# Altium integrated library Linear Technology Power Management PMIC Multifunction.IntLib: 360 symbols (part 11 of 42)
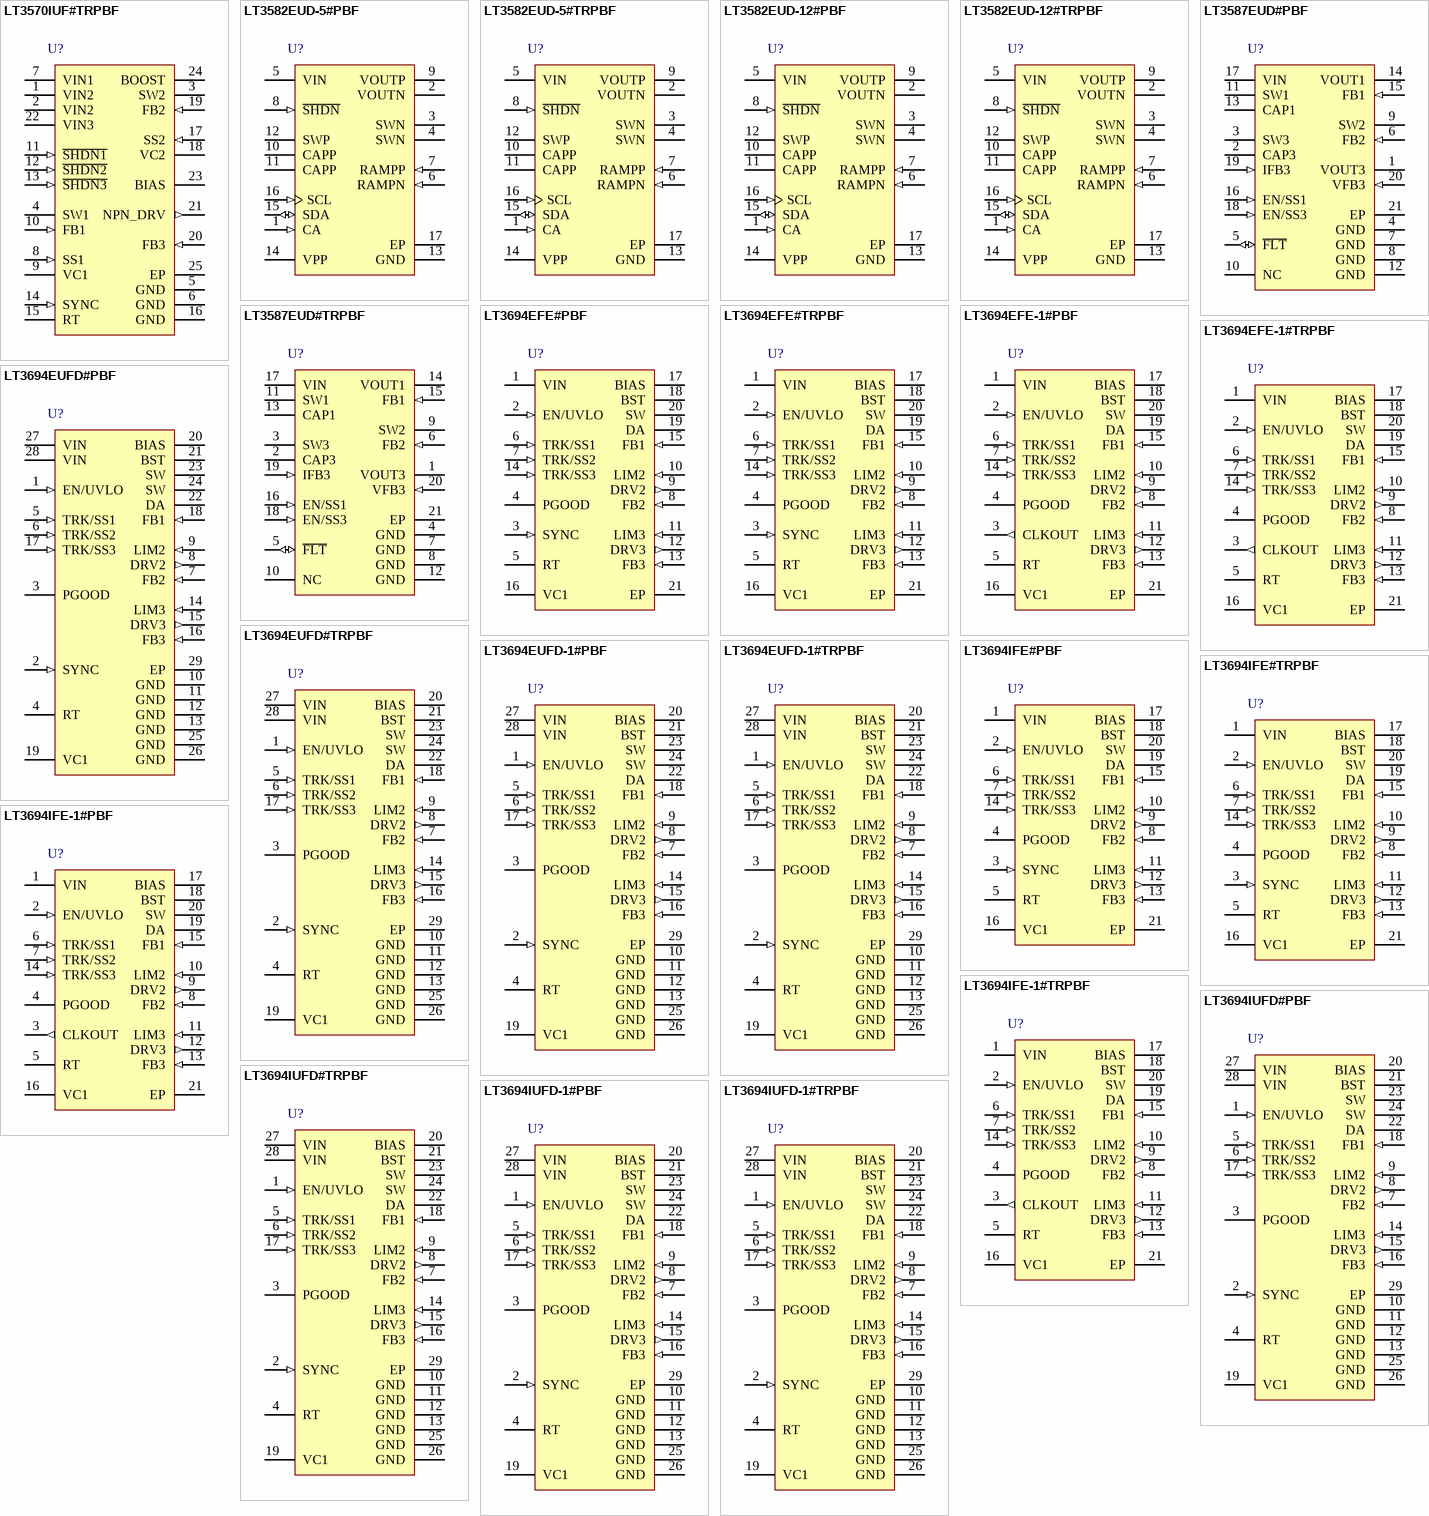
[diagram p28: symbols LT3570IUF#TRPBF to LT3694IUFD-1#TRPBF]

## LT3694IUFD-1#PBF
designator U?
2.6 A Monolithic Buck Regulator with Dual LDO, 4 to 36 V Vin, 28-pin QFN (UFD-28), -40 to 125 degC, Pb-Free; Manufacturer: Linear Technology; PartNumber: LT3694IUFD-1#PBF; Number of Outputs: 3; Vin Max(V): 36; Vin Min(V): 4; DatasheetVersion: Rev. B; PackageVersion: Rev. B, 06/2010; PackageReference: UFD-28; PackageDescription: 28-Pin Plastic QFN, Body 5 x 4 mm, Pitch 0.5 mm; Supplier 1: Digi-Key; Supplier Part Number 1: LT3694IUFD-1#PBF-ND; RoHS: TRUE; Mounting Technology: Surface Mount; Code_JEDEC: MO-220; ComponentLink1Description: Manufacturer URL; ComponentLink1URL: http://www.linear.com/; ComponentLink2Description: Datasheet; ComponentLink2URL: http://cds.linear.com/docs/en/datasheet/36941fb.pdf; ComponentLink3Description: Package Specification; ComponentLink3URL: http://cds.linear.com/docs/en/packaging/QFN_28_05-08-1712.pdf
footprint LT-UFD-28_N (QFN, 28-Leads, Body 5.1x4.1mm, Pitch 0.5mm, Thermal Pad 3.65x2.65mm, IPC Medium Density)
footprint LT-UFD-28_L (QFN, 28-Leads, Body 5.1x4.1mm, Pitch 0.5mm, Thermal Pad 3.65x2.65mm, IPC High Density)
footprint LT-UFD-28_M (QFN, 28-Leads, Body 5.1x4.1mm, Pitch 0.5mm, Thermal Pad 3.65x2.65mm, IPC Low Density)
pins: 1 EN/UVLO (in) "The EN/UVLO pin is used to shut down the LT3694. It can be driven from a logic level or used as an undervoltage lockout by connecting a resistor divider from VIN.", 2 SYNC (in) "Frequency Synchronization Input. Connect a frequency source to this input if synchronization is desired. Connect SYNC to ground if not used", 3 PGOOD (oc) "Open Collector Output. PGOOD is pulled low when any of the three regulators drops out of regulation (VFB < 90% of nominal value).", 4 RT "The RT pin requires a resistor to ground to set the operating frequency of the LT3694. If synchronizing the LT3694 to an external clock, the resistor should be set to program the frequency at least 20% below the (See Datasheet)", 5 TRK/SS1 (in) "The TRK/SS pins allow a regulator to track the output of another regulator. When the TRK/SS pin is below 0.75V, the FB pin regulates to the TRK/SS voltage. This pin can also be used as a soft-start by connecting a capacitor (See Datasheet)", 6 TRK/SS2 (in) "The TRK/SS pins allow a regulator to track the output of another regulator. When the TRK/SS pin is below 0.75V, the FB pin regulates to the TRK/SS voltage. This pin can also be used as a soft-start by connecting a capacitor (See Datasheet)", 7 FB2 (in) "Negative Inputs of the Error Amplifiers. The LT3694 regulates each feedback pin to the lesser of 0.75V or the corresponding TRK/SS pin voltage. Connect the feedback resistor divider taps to these pins.", 8 DRV2 (out) "The DRV pins provide the base drive for the external NPN transistorfor the LDO regulators. The DRV pins can provide up to 6V of base drive.", 9 LIM2 (in) "The LIM pins provide current limiting on the LDO pass transistors by sensing a voltage on an external sense resistor connected to the BIAS pin. These pins should be connected to BIAS if this function is not used.", 10 GND (power) "Power and Signal Ground.", 11 GND (power) "Power and Signal Ground.", 12 GND (power) "Power and Signal Ground.", 13 GND (power) "Power and Signal Ground.", 14 LIM3 (in) "The LIM pins provide current limiting on the LDO pass transistors by sensing a voltage on an external sense resistor connected to the BIAS pin. These pins should be connected to BIAS if this function is not used.", 15 DRV3 (out) "The DRV pins provide the base drive for the external NPN transistorfor the LDO regulators. The DRV pins can provide up to 6V of base drive.", 16 FB3 (in) "Negative Inputs of the Error Amplifiers. The LT3694 regulates each feedback pin to the lesser of 0.75V or the corresponding TRK/SS pin voltage. Connect the feedback resistor divider taps to these pins.", 17 TRK/SS3 (in) "The TRK/SS pins allow a regulator to track the output of another regulator. When the TRK/SS pin is below 0.75V, the FB pin regulates to the TRK/SS voltage. This pin can also be used as a soft-start by connecting a capacitor (See Datasheet)", 18 FB1 (in) "Negative Inputs of the Error Amplifiers. The LT3694 regulates each feedback pin to the lesser of 0.75V or the corresponding TRK/SS pin voltage. Connect the feedback resistor divider taps to these pins.", 19 VC1 "Output of the Internal Error Amp. The voltage on this pin controls the peak switch current. This pin is normally used to compensate the control loop. The switching regulator can be shut down by pulling the VC1 pin to ground (See Datasheet)", 20 BIAS (power) "The BIAS pin supplies the current to the LT3694’s internal regulator and boost circuits. This must be connected to a voltage source above 3V, usually to VOUT1. The LDO pass transistor base current will also come from th(See Datasheet)", 21 BST "The BST pin is used to provide a drive voltage, higher than the input voltage, to the internal bipolar NPN power switch.", 22 DA "The DA pin senses the catch diode current to prevent excessive inductor current in output overload or short-circuit conditions.", 23 SW (power) "Output of the Internal Power Switch. Connect this pin to the inductor and switching diode.", 24 SW (power) "Output of the Internal Power Switch. Connect this pin to the inductor and switching diode.", 25 GND (power) "Power and Signal Ground.", 26 GND (power) "Power and Signal Ground.", 27 VIN (power) "The VIN pin supplies power to the internal switch of the 2.6A regulator and to the LT3694’s internal reference and start-up circuitry. This pin must be locally bypassed.", 28 VIN (power) "The VIN pin supplies power to the internal switch of the 2.6A regulator and to the LT3694’s internal reference and start-up circuitry. This pin must be locally bypassed.", 29 EP (power) "Ground. The underside exposed pad metal of the package provides both electrical contact to ground and a conductive thermal path to the printed circuit board. The Exposed Pad must be soldered to a grounded pad on the circuit (See Datasheet)"

## LT3694IUFD-1#TRPBF
designator U?
2.6 A Monolithic Buck Regulator with Dual LDO, 4 to 36 V Vin, 28-pin QFN (UFD-28), -40 to 125 degC, Pb-Free, Tape and Reel; Manufacturer: Linear Technology; PartNumber: LT3694IUFD-1#TRPBF; Number of Outputs: 3; Vin Max(V): 36; Vin Min(V): 4; DatasheetVersion: Rev. B; PackageVersion: Rev. B, 06/2010; PackageReference: UFD-28; PackageDescription: 28-Pin Plastic QFN, Body 5 x 4 mm, Pitch 0.5 mm; Supplier 1: Digi-Key; Supplier Part Number 1: LT3694IUFD-1#TRPBF-ND; Packing: Tape and Reel; RoHS: TRUE; Mounting Technology: Surface Mount; Code_JEDEC: MO-220; ComponentLink1Description: Manufacturer URL; ComponentLink1URL: http://www.linear.com/; ComponentLink2Description: Datasheet; ComponentLink2URL: http://cds.linear.com/docs/en/datasheet/36941fb.pdf; ComponentLink3Description: Package Specification; ComponentLink3URL: http://cds.linear.com/docs/en/packaging/QFN_28_05-08-1712.pdf
footprint LT-UFD-28_N (QFN, 28-Leads, Body 5.1x4.1mm, Pitch 0.5mm, Thermal Pad 3.65x2.65mm, IPC Medium Density)
footprint LT-UFD-28_L (QFN, 28-Leads, Body 5.1x4.1mm, Pitch 0.5mm, Thermal Pad 3.65x2.65mm, IPC High Density)
footprint LT-UFD-28_M (QFN, 28-Leads, Body 5.1x4.1mm, Pitch 0.5mm, Thermal Pad 3.65x2.65mm, IPC Low Density)
pins: 1 EN/UVLO (in) "The EN/UVLO pin is used to shut down the LT3694. It can be driven from a logic level or used as an undervoltage lockout by connecting a resistor divider from VIN.", 2 SYNC (in) "Frequency Synchronization Input. Connect a frequency source to this input if synchronization is desired. Connect SYNC to ground if not used", 3 PGOOD (oc) "Open Collector Output. PGOOD is pulled low when any of the three regulators drops out of regulation (VFB < 90% of nominal value).", 4 RT "The RT pin requires a resistor to ground to set the operating frequency of the LT3694. If synchronizing the LT3694 to an external clock, the resistor should be set to program the frequency at least 20% below the (See Datasheet)", 5 TRK/SS1 (in) "The TRK/SS pins allow a regulator to track the output of another regulator. When the TRK/SS pin is below 0.75V, the FB pin regulates to the TRK/SS voltage. This pin can also be used as a soft-start by connecting a capacitor (See Datasheet)", 6 TRK/SS2 (in) "The TRK/SS pins allow a regulator to track the output of another regulator. When the TRK/SS pin is below 0.75V, the FB pin regulates to the TRK/SS voltage. This pin can also be used as a soft-start by connecting a capacitor (See Datasheet)", 7 FB2 (in) "Negative Inputs of the Error Amplifiers. The LT3694 regulates each feedback pin to the lesser of 0.75V or the corresponding TRK/SS pin voltage. Connect the feedback resistor divider taps to these pins.", 8 DRV2 (out) "The DRV pins provide the base drive for the external NPN transistorfor the LDO regulators. The DRV pins can provide up to 6V of base drive.", 9 LIM2 (in) "The LIM pins provide current limiting on the LDO pass transistors by sensing a voltage on an external sense resistor connected to the BIAS pin. These pins should be connected to BIAS if this function is not used.", 10 GND (power) "Power and Signal Ground.", 11 GND (power) "Power and Signal Ground.", 12 GND (power) "Power and Signal Ground.", 13 GND (power) "Power and Signal Ground.", 14 LIM3 (in) "The LIM pins provide current limiting on the LDO pass transistors by sensing a voltage on an external sense resistor connected to the BIAS pin. These pins should be connected to BIAS if this function is not used.", 15 DRV3 (out) "The DRV pins provide the base drive for the external NPN transistorfor the LDO regulators. The DRV pins can provide up to 6V of base drive.", 16 FB3 (in) "Negative Inputs of the Error Amplifiers. The LT3694 regulates each feedback pin to the lesser of 0.75V or the corresponding TRK/SS pin voltage. Connect the feedback resistor divider taps to these pins.", 17 TRK/SS3 (in) "The TRK/SS pins allow a regulator to track the output of another regulator. When the TRK/SS pin is below 0.75V, the FB pin regulates to the TRK/SS voltage. This pin can also be used as a soft-start by connecting a capacitor (See Datasheet)", 18 FB1 (in) "Negative Inputs of the Error Amplifiers. The LT3694 regulates each feedback pin to the lesser of 0.75V or the corresponding TRK/SS pin voltage. Connect the feedback resistor divider taps to these pins.", 19 VC1 "Output of the Internal Error Amp. The voltage on this pin controls the peak switch current. This pin is normally used to compensate the control loop. The switching regulator can be shut down by pulling the VC1 pin to ground (See Datasheet)", 20 BIAS (power) "The BIAS pin supplies the current to the LT3694’s internal regulator and boost circuits. This must be connected to a voltage source above 3V, usually to VOUT1. The LDO pass transistor base current will also come from th(See Datasheet)", 21 BST "The BST pin is used to provide a drive voltage, higher than the input voltage, to the internal bipolar NPN power switch.", 22 DA "The DA pin senses the catch diode current to prevent excessive inductor current in output overload or short-circuit conditions.", 23 SW (power) "Output of the Internal Power Switch. Connect this pin to the inductor and switching diode.", 24 SW (power) "Output of the Internal Power Switch. Connect this pin to the inductor and switching diode.", 25 GND (power) "Power and Signal Ground.", 26 GND (power) "Power and Signal Ground.", 27 VIN (power) "The VIN pin supplies power to the internal switch of the 2.6A regulator and to the LT3694’s internal reference and start-up circuitry. This pin must be locally bypassed.", 28 VIN (power) "The VIN pin supplies power to the internal switch of the 2.6A regulator and to the LT3694’s internal reference and start-up circuitry. This pin must be locally bypassed.", 29 EP (power) "Ground. The underside exposed pad metal of the package provides both electrical contact to ground and a conductive thermal path to the printed circuit board. The Exposed Pad must be soldered to a grounded pad on the circuit (See Datasheet)"

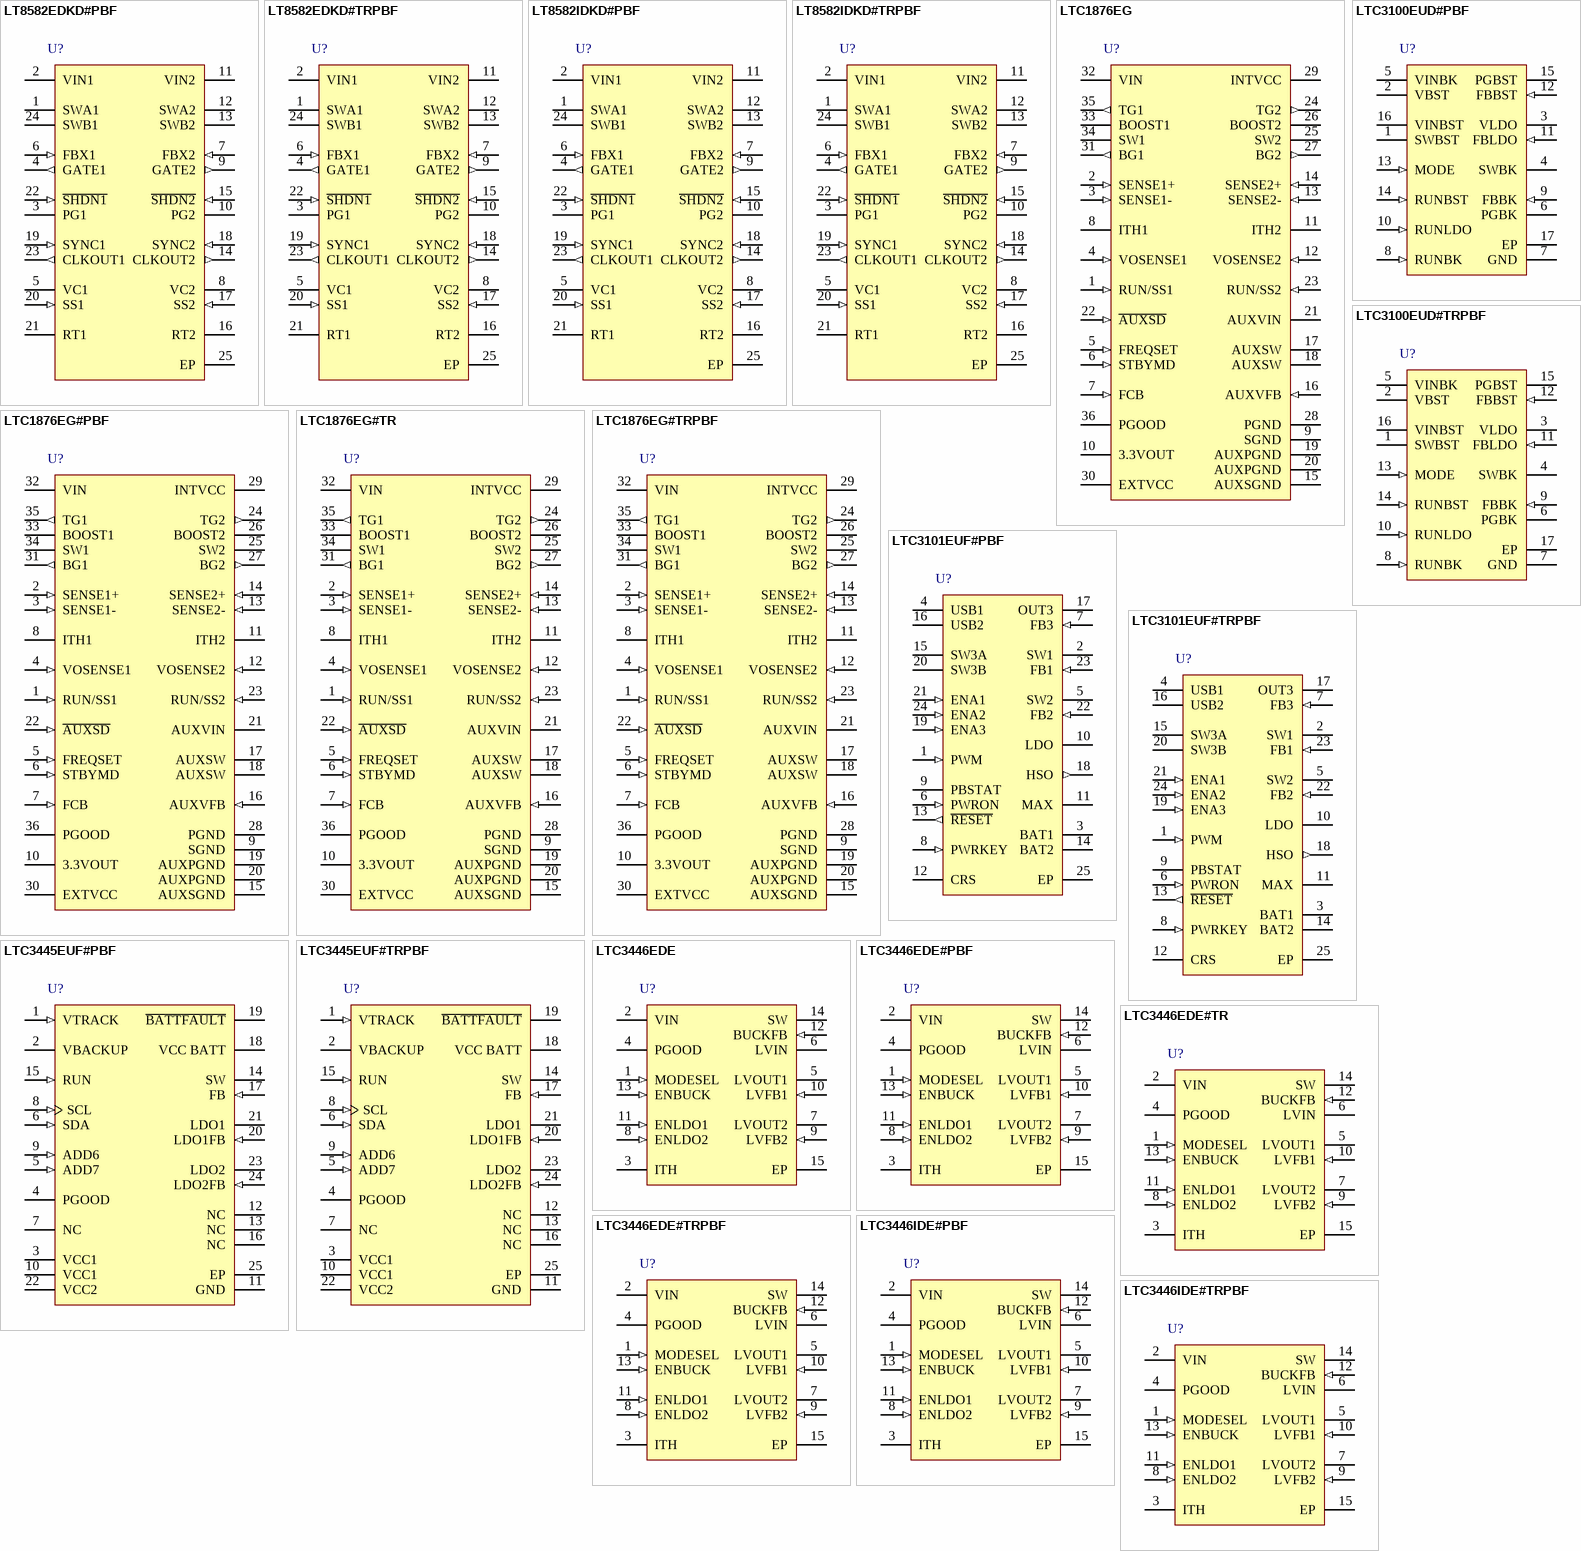
[diagram p5: symbols LT8582EDKD#PBF to LTC3446IDE#TRPBF]

## LT8582EDKD#PBF
designator U?
Dual 3 A Boost / Inverting / SEPIC DC/DC Converter with Fault Protection, 2.5 to 22 V Vin, 24-pin SON (DKD-24), -40 to 125 degC, Pb-Free; Manufacturer: Linear Technology; PartNumber: LT8582EDKD#PBF; Number of Outputs: 2; Vin Max(V): 22; Vin Min(V): 2.5; PackageVersion: Rev. Ø, 06/2010; PackageReference: DKD-24; PackageDescription: 24-Pin Plastic DFN, Body 7 x 4 mm, Pitch 0.5 mm; Supplier 1: Digi-Key; Supplier Part Number 1: LT8582EDKD#PBF-ND; Supplier 2: Farnell; Supplier Part Number 2: 2097872; Supplier 3: Newark; Supplier Part Number 3: 82T4676; RoHS: TRUE; Mounting Technology: Surface Mount; Code_JEDEC: MO-229; ComponentLink1Description: Manufacturer URL; ComponentLink1URL: http://www.linear.com/; ComponentLink2Description: Datasheet; ComponentLink2URL: http://cds.linear.com/docs/en/datasheet/8582f.pdf; ComponentLink3Description: Package Specification; ComponentLink3URL: http://cds.linear.com/docs/en/packaging/DFN_24_05-08-1864.pdf
footprint LT-DKD-24_V (SON, 24-Leads, Body 7x4mm, Pitch 0.5mm, Thermal Pad 2.64x6.43mm)
pins: 1 SWA1 (power) "Master Switch Pins. This is the collector of the internal master NPN power switch for each channel. SWA is designed to handle a peak collector current of 1.7A (minimum). Minimize the metal trace area connected to this pin to (See Datasheet)", 2 VIN1 (power) "Input Supply Pins. Must be locally bypassed.", 3 PG1 (oc) "Power Good Indication Pins. This active high pin indicates that the FBX pin voltage for the corresponding channel is within 4% of its regulation voltage (VFBX > 1.15V for noninverting outputs or VFBX < 65mV for inverting (See Datasheet)", 4 GATE1 (out) "PMOS Gate Drive Pins. The GATE pin is a pull-down current source and can be used to drive the gate of an external PMOS transistor for output short-circuit protection or output disconnect. The GATE pin current increases (See Datasheet)", 5 VC1 "Error Amplifier Output Pins. Tie external compensation network to these pins.", 6 FBX1 (in) "Positive and Negative Feedback Pins. For an inverting or noninverting output converter, tie a resistor from the FBX pin to VOUT according to the following equations", 7 FBX2 (in) "Positive and Negative Feedback Pins. For an inverting or noninverting output converter, tie a resistor from the FBX pin to VOUT according to the following equations", 8 VC2 "Error Amplifier Output Pins. Tie external compensation network to these pins.", 9 GATE2 (out) "PMOS Gate Drive Pins. The GATE pin is a pull-down current source and can be used to drive the gate of an external PMOS transistor for output short-circuit protection or output disconnect. The GATE pin current increases (See Datasheet)", 10 PG2 (oc) "Power Good Indication Pins. This active high pin indicates that the FBX pin voltage for the corresponding channel is within 4% of its regulation voltage (VFBX > 1.15V for noninverting outputs or VFBX < 65mV for inverting (See Datasheet)", 11 VIN2 (power) "Input Supply Pins. Must be locally bypassed.", 12 SWA2 (power) "Master Switch Pins. This is the collector of the internal master NPN power switch for each channel. SWA is designed to handle a peak collector current of 1.7A (minimum). Minimize the metal trace area connected to this pin to (See Datasheet)", 13 SWB2 (power) "Slave Switch Pins. This is the collector of the internal slave NPN power switch for each channel. SWB is designed to handle a peak collector current of 1.3A (minimum). Minimize the metal trace area connected to this pin to (See Datasheet)", 14 CLKOUT2 (out) "Clock Output Pins. Use these pins to synchronize one or more other ICs to either channel of the LT8582. Can also be used to synchronize channel 1 or channel 2 of the LT8582 with the other channel of the LT8582. This pin (See Datasheet)", 15 ~{SHDN2} (in) "Shutdown Pins. In conjunction with the UVLO (undervoltage lockout) circuit, these pins are used to enable/disable the channel and restart the soft-start sequence. Drive below 0.3V to disable the channel with very low (See Datasheet)", 16 RT2 "Timing Resistor Pins. Adjusts the switching frequency of the corresponding channel. Place a resistor from these pins to ground to set the frequency to a fixed free running level. Do not float these pins.", 17 SS2 (in) "Soft-Start Pins. Place a softstart capacitor here. Upon start-up, the SS pins will be charged by a (nominally) 250k resistor to ~2.1V. During a fault, the SS pin for the corresponding channel will be slowly charged up and (See Datasheet)", 18 SYNC2 (in) "Use to synchronize the switching frequency of a channel to an outside clock. The high voltage level of the clock must exceed 1.3V and the low level must be less than 0.4V. Drive these pins to less than 0.4V to revert to the (See Datasheet)", 19 SYNC1 (in) "Use to synchronize the switching frequency of a channel to an outside clock. The high voltage level of the clock must exceed 1.3V and the low level must be less than 0.4V. Drive these pins to less than 0.4V to revert to the (See Datasheet)", 20 SS1 (in) "Soft-Start Pins. Place a softstart capacitor here. Upon start-up, the SS pins will be charged by a (nominally) 250k resistor to ~2.1V. During a fault, the SS pin for the corresponding channel will be slowly charged up and (See Datasheet)", 21 RT1 "Timing Resistor Pins. Adjusts the switching frequency of the corresponding channel. Place a resistor from these pins to ground to set the frequency to a fixed free running level. Do not float these pins.", 22 ~{SHDN1} (in) "Shutdown Pins. In conjunction with the UVLO (undervoltage lockout) circuit, these pins are used to enable/disable the channel and restart the soft-start sequence. Drive below 0.3V to disable the channel with very low (See Datasheet)", 23 CLKOUT1 (out) "Clock Output Pins. Use these pins to synchronize one or more other ICs to either channel of the LT8582. Can also be used to synchronize channel 1 or channel 2 of the LT8582 with the other channel of the LT8582. This pin (See Datasheet)", 24 SWB1 (power) "Slave Switch Pins. This is the collector of the internal slave NPN power switch for each channel. SWB is designed to handle a peak collector current of 1.3A (minimum). Minimize the metal trace area connected to this pin to (See Datasheet)", 25 EP (power) "Ground. Exposed pad must be soldered directly to local ground plane."

## LT8582EDKD#TRPBF
designator U?
Dual 3 A Boost / Inverting / SEPIC DC/DC Converter with Fault Protection, 2.5 to 22 V Vin, 24-pin SON (DKD-24), -40 to 125 degC, Pb-Free, Tape and Reel; Manufacturer: Linear Technology; PartNumber: LT8582EDKD#TRPBF; Number of Outputs: 2; Vin Max(V): 22; Vin Min(V): 2.5; PackageVersion: Rev. Ø, 06/2010; PackageReference: DKD-24; PackageDescription: 24-Pin Plastic DFN, Body 7 x 4 mm, Pitch 0.5 mm; Supplier 1: Digi-Key; Supplier Part Number 1: LT8582EDKD#TRPBF-ND; Packing: Tape and Reel; RoHS: TRUE; Mounting Technology: Surface Mount; Code_JEDEC: MO-229; ComponentLink1Description: Manufacturer URL; ComponentLink1URL: http://www.linear.com/; ComponentLink2Description: Datasheet; ComponentLink2URL: http://cds.linear.com/docs/en/datasheet/8582f.pdf; ComponentLink3Description: Package Specification; ComponentLink3URL: http://cds.linear.com/docs/en/packaging/DFN_24_05-08-1864.pdf
footprint LT-DKD-24_V (SON, 24-Leads, Body 7x4mm, Pitch 0.5mm, Thermal Pad 2.64x6.43mm)
pins: 1 SWA1 (power) "Master Switch Pins. This is the collector of the internal master NPN power switch for each channel. SWA is designed to handle a peak collector current of 1.7A (minimum). Minimize the metal trace area connected to this pin to (See Datasheet)", 2 VIN1 (power) "Input Supply Pins. Must be locally bypassed.", 3 PG1 (oc) "Power Good Indication Pins. This active high pin indicates that the FBX pin voltage for the corresponding channel is within 4% of its regulation voltage (VFBX > 1.15V for noninverting outputs or VFBX < 65mV for inverting (See Datasheet)", 4 GATE1 (out) "PMOS Gate Drive Pins. The GATE pin is a pull-down current source and can be used to drive the gate of an external PMOS transistor for output short-circuit protection or output disconnect. The GATE pin current increases (See Datasheet)", 5 VC1 "Error Amplifier Output Pins. Tie external compensation network to these pins.", 6 FBX1 (in) "Positive and Negative Feedback Pins. For an inverting or noninverting output converter, tie a resistor from the FBX pin to VOUT according to the following equations", 7 FBX2 (in) "Positive and Negative Feedback Pins. For an inverting or noninverting output converter, tie a resistor from the FBX pin to VOUT according to the following equations", 8 VC2 "Error Amplifier Output Pins. Tie external compensation network to these pins.", 9 GATE2 (out) "PMOS Gate Drive Pins. The GATE pin is a pull-down current source and can be used to drive the gate of an external PMOS transistor for output short-circuit protection or output disconnect. The GATE pin current increases (See Datasheet)", 10 PG2 (oc) "Power Good Indication Pins. This active high pin indicates that the FBX pin voltage for the corresponding channel is within 4% of its regulation voltage (VFBX > 1.15V for noninverting outputs or VFBX < 65mV for inverting (See Datasheet)", 11 VIN2 (power) "Input Supply Pins. Must be locally bypassed.", 12 SWA2 (power) "Master Switch Pins. This is the collector of the internal master NPN power switch for each channel. SWA is designed to handle a peak collector current of 1.7A (minimum). Minimize the metal trace area connected to this pin to (See Datasheet)", 13 SWB2 (power) "Slave Switch Pins. This is the collector of the internal slave NPN power switch for each channel. SWB is designed to handle a peak collector current of 1.3A (minimum). Minimize the metal trace area connected to this pin to (See Datasheet)", 14 CLKOUT2 (out) "Clock Output Pins. Use these pins to synchronize one or more other ICs to either channel of the LT8582. Can also be used to synchronize channel 1 or channel 2 of the LT8582 with the other channel of the LT8582. This pin (See Datasheet)", 15 ~{SHDN2} (in) "Shutdown Pins. In conjunction with the UVLO (undervoltage lockout) circuit, these pins are used to enable/disable the channel and restart the soft-start sequence. Drive below 0.3V to disable the channel with very low (See Datasheet)", 16 RT2 "Timing Resistor Pins. Adjusts the switching frequency of the corresponding channel. Place a resistor from these pins to ground to set the frequency to a fixed free running level. Do not float these pins.", 17 SS2 (in) "Soft-Start Pins. Place a softstart capacitor here. Upon start-up, the SS pins will be charged by a (nominally) 250k resistor to ~2.1V. During a fault, the SS pin for the corresponding channel will be slowly charged up and (See Datasheet)", 18 SYNC2 (in) "Use to synchronize the switching frequency of a channel to an outside clock. The high voltage level of the clock must exceed 1.3V and the low level must be less than 0.4V. Drive these pins to less than 0.4V to revert to the (See Datasheet)", 19 SYNC1 (in) "Use to synchronize the switching frequency of a channel to an outside clock. The high voltage level of the clock must exceed 1.3V and the low level must be less than 0.4V. Drive these pins to less than 0.4V to revert to the (See Datasheet)", 20 SS1 (in) "Soft-Start Pins. Place a softstart capacitor here. Upon start-up, the SS pins will be charged by a (nominally) 250k resistor to ~2.1V. During a fault, the SS pin for the corresponding channel will be slowly charged up and (See Datasheet)", 21 RT1 "Timing Resistor Pins. Adjusts the switching frequency of the corresponding channel. Place a resistor from these pins to ground to set the frequency to a fixed free running level. Do not float these pins.", 22 ~{SHDN1} (in) "Shutdown Pins. In conjunction with the UVLO (undervoltage lockout) circuit, these pins are used to enable/disable the channel and restart the soft-start sequence. Drive below 0.3V to disable the channel with very low (See Datasheet)", 23 CLKOUT1 (out) "Clock Output Pins. Use these pins to synchronize one or more other ICs to either channel of the LT8582. Can also be used to synchronize channel 1 or channel 2 of the LT8582 with the other channel of the LT8582. This pin (See Datasheet)", 24 SWB1 (power) "Slave Switch Pins. This is the collector of the internal slave NPN power switch for each channel. SWB is designed to handle a peak collector current of 1.3A (minimum). Minimize the metal trace area connected to this pin to (See Datasheet)", 25 EP (power) "Ground. Exposed pad must be soldered directly to local ground plane."

## LT8582IDKD#PBF
designator U?
Dual 3 A Boost / Inverting / SEPIC DC/DC Converter with Fault Protection, 2.5 to 22 V Vin, 24-pin SON (DKD-24), -40 to 125 degC, Pb-Free; Manufacturer: Linear Technology; PartNumber: LT8582IDKD#PBF; Number of Outputs: 2; Vin Max(V): 22; Vin Min(V): 2.5; PackageVersion: Rev. Ø, 06/2010; PackageReference: DKD-24; PackageDescription: 24-Pin Plastic DFN, Body 7 x 4 mm, Pitch 0.5 mm; Supplier 1: Digi-Key; Supplier Part Number 1: LT8582IDKD#PBF-ND; Supplier 2: Farnell; Supplier Part Number 2: 2097873; Supplier 3: Newark; Supplier Part Number 3: 82T4678; RoHS: TRUE; Mounting Technology: Surface Mount; Code_JEDEC: MO-229; ComponentLink1Description: Manufacturer URL; ComponentLink1URL: http://www.linear.com/; ComponentLink2Description: Datasheet; ComponentLink2URL: http://cds.linear.com/docs/en/datasheet/8582f.pdf; ComponentLink3Description: Package Specification; ComponentLink3URL: http://cds.linear.com/docs/en/packaging/DFN_24_05-08-1864.pdf
footprint LT-DKD-24_V (SON, 24-Leads, Body 7x4mm, Pitch 0.5mm, Thermal Pad 2.64x6.43mm)
pins: 1 SWA1 (power) "Master Switch Pins. This is the collector of the internal master NPN power switch for each channel. SWA is designed to handle a peak collector current of 1.7A (minimum). Minimize the metal trace area connected to this pin to (See Datasheet)", 2 VIN1 (power) "Input Supply Pins. Must be locally bypassed.", 3 PG1 (oc) "Power Good Indication Pins. This active high pin indicates that the FBX pin voltage for the corresponding channel is within 4% of its regulation voltage (VFBX > 1.15V for noninverting outputs or VFBX < 65mV for inverting (See Datasheet)", 4 GATE1 (out) "PMOS Gate Drive Pins. The GATE pin is a pull-down current source and can be used to drive the gate of an external PMOS transistor for output short-circuit protection or output disconnect. The GATE pin current increases (See Datasheet)", 5 VC1 "Error Amplifier Output Pins. Tie external compensation network to these pins.", 6 FBX1 (in) "Positive and Negative Feedback Pins. For an inverting or noninverting output converter, tie a resistor from the FBX pin to VOUT according to the following equations", 7 FBX2 (in) "Positive and Negative Feedback Pins. For an inverting or noninverting output converter, tie a resistor from the FBX pin to VOUT according to the following equations", 8 VC2 "Error Amplifier Output Pins. Tie external compensation network to these pins.", 9 GATE2 (out) "PMOS Gate Drive Pins. The GATE pin is a pull-down current source and can be used to drive the gate of an external PMOS transistor for output short-circuit protection or output disconnect. The GATE pin current increases (See Datasheet)", 10 PG2 (oc) "Power Good Indication Pins. This active high pin indicates that the FBX pin voltage for the corresponding channel is within 4% of its regulation voltage (VFBX > 1.15V for noninverting outputs or VFBX < 65mV for inverting (See Datasheet)", 11 VIN2 (power) "Input Supply Pins. Must be locally bypassed.", 12 SWA2 (power) "Master Switch Pins. This is the collector of the internal master NPN power switch for each channel. SWA is designed to handle a peak collector current of 1.7A (minimum). Minimize the metal trace area connected to this pin to (See Datasheet)", 13 SWB2 (power) "Slave Switch Pins. This is the collector of the internal slave NPN power switch for each channel. SWB is designed to handle a peak collector current of 1.3A (minimum). Minimize the metal trace area connected to this pin to (See Datasheet)", 14 CLKOUT2 (out) "Clock Output Pins. Use these pins to synchronize one or more other ICs to either channel of the LT8582. Can also be used to synchronize channel 1 or channel 2 of the LT8582 with the other channel of the LT8582. This pin (See Datasheet)", 15 ~{SHDN2} (in) "Shutdown Pins. In conjunction with the UVLO (undervoltage lockout) circuit, these pins are used to enable/disable the channel and restart the soft-start sequence. Drive below 0.3V to disable the channel with very low (See Datasheet)", 16 RT2 "Timing Resistor Pins. Adjusts the switching frequency of the corresponding channel. Place a resistor from these pins to ground to set the frequency to a fixed free running level. Do not float these pins.", 17 SS2 (in) "Soft-Start Pins. Place a softstart capacitor here. Upon start-up, the SS pins will be charged by a (nominally) 250k resistor to ~2.1V. During a fault, the SS pin for the corresponding channel will be slowly charged up and (See Datasheet)", 18 SYNC2 (in) "Use to synchronize the switching frequency of a channel to an outside clock. The high voltage level of the clock must exceed 1.3V and the low level must be less than 0.4V. Drive these pins to less than 0.4V to revert to the (See Datasheet)", 19 SYNC1 (in) "Use to synchronize the switching frequency of a channel to an outside clock. The high voltage level of the clock must exceed 1.3V and the low level must be less than 0.4V. Drive these pins to less than 0.4V to revert to the (See Datasheet)", 20 SS1 (in) "Soft-Start Pins. Place a softstart capacitor here. Upon start-up, the SS pins will be charged by a (nominally) 250k resistor to ~2.1V. During a fault, the SS pin for the corresponding channel will be slowly charged up and (See Datasheet)", 21 RT1 "Timing Resistor Pins. Adjusts the switching frequency of the corresponding channel. Place a resistor from these pins to ground to set the frequency to a fixed free running level. Do not float these pins.", 22 ~{SHDN1} (in) "Shutdown Pins. In conjunction with the UVLO (undervoltage lockout) circuit, these pins are used to enable/disable the channel and restart the soft-start sequence. Drive below 0.3V to disable the channel with very low (See Datasheet)", 23 CLKOUT1 (out) "Clock Output Pins. Use these pins to synchronize one or more other ICs to either channel of the LT8582. Can also be used to synchronize channel 1 or channel 2 of the LT8582 with the other channel of the LT8582. This pin (See Datasheet)", 24 SWB1 (power) "Slave Switch Pins. This is the collector of the internal slave NPN power switch for each channel. SWB is designed to handle a peak collector current of 1.3A (minimum). Minimize the metal trace area connected to this pin to (See Datasheet)", 25 EP (power) "Ground. Exposed pad must be soldered directly to local ground plane."

## LT8582IDKD#TRPBF
designator U?
Dual 3 A Boost / Inverting / SEPIC DC/DC Converter with Fault Protection, 2.5 to 22 V Vin, 24-pin SON (DKD-24), -40 to 125 degC, Pb-Free, Tape and Reel; Manufacturer: Linear Technology; PartNumber: LT8582IDKD#TRPBF; Number of Outputs: 2; Vin Max(V): 22; Vin Min(V): 2.5; PackageVersion: Rev. Ø, 06/2010; PackageReference: DKD-24; PackageDescription: 24-Pin Plastic DFN, Body 7 x 4 mm, Pitch 0.5 mm; Supplier 1: Digi-Key; Supplier Part Number 1: LT8582IDKD#TRPBF-ND; Supplier 2: Newark; Supplier Part Number 2: 82T4679; Packing: Tape and Reel; RoHS: TRUE; Mounting Technology: Surface Mount; Code_JEDEC: MO-229; ComponentLink1Description: Manufacturer URL; ComponentLink1URL: http://www.linear.com/; ComponentLink2Description: Datasheet; ComponentLink2URL: http://cds.linear.com/docs/en/datasheet/8582f.pdf; ComponentLink3Description: Package Specification; ComponentLink3URL: http://cds.linear.com/docs/en/packaging/DFN_24_05-08-1864.pdf
footprint LT-DKD-24_V (SON, 24-Leads, Body 7x4mm, Pitch 0.5mm, Thermal Pad 2.64x6.43mm)
pins: 1 SWA1 (power) "Master Switch Pins. This is the collector of the internal master NPN power switch for each channel. SWA is designed to handle a peak collector current of 1.7A (minimum). Minimize the metal trace area connected to this pin to (See Datasheet)", 2 VIN1 (power) "Input Supply Pins. Must be locally bypassed.", 3 PG1 (oc) "Power Good Indication Pins. This active high pin indicates that the FBX pin voltage for the corresponding channel is within 4% of its regulation voltage (VFBX > 1.15V for noninverting outputs or VFBX < 65mV for inverting (See Datasheet)", 4 GATE1 (out) "PMOS Gate Drive Pins. The GATE pin is a pull-down current source and can be used to drive the gate of an external PMOS transistor for output short-circuit protection or output disconnect. The GATE pin current increases (See Datasheet)", 5 VC1 "Error Amplifier Output Pins. Tie external compensation network to these pins.", 6 FBX1 (in) "Positive and Negative Feedback Pins. For an inverting or noninverting output converter, tie a resistor from the FBX pin to VOUT according to the following equations", 7 FBX2 (in) "Positive and Negative Feedback Pins. For an inverting or noninverting output converter, tie a resistor from the FBX pin to VOUT according to the following equations", 8 VC2 "Error Amplifier Output Pins. Tie external compensation network to these pins.", 9 GATE2 (out) "PMOS Gate Drive Pins. The GATE pin is a pull-down current source and can be used to drive the gate of an external PMOS transistor for output short-circuit protection or output disconnect. The GATE pin current increases (See Datasheet)", 10 PG2 (oc) "Power Good Indication Pins. This active high pin indicates that the FBX pin voltage for the corresponding channel is within 4% of its regulation voltage (VFBX > 1.15V for noninverting outputs or VFBX < 65mV for inverting (See Datasheet)", 11 VIN2 (power) "Input Supply Pins. Must be locally bypassed.", 12 SWA2 (power) "Master Switch Pins. This is the collector of the internal master NPN power switch for each channel. SWA is designed to handle a peak collector current of 1.7A (minimum). Minimize the metal trace area connected to this pin to (See Datasheet)", 13 SWB2 (power) "Slave Switch Pins. This is the collector of the internal slave NPN power switch for each channel. SWB is designed to handle a peak collector current of 1.3A (minimum). Minimize the metal trace area connected to this pin to (See Datasheet)", 14 CLKOUT2 (out) "Clock Output Pins. Use these pins to synchronize one or more other ICs to either channel of the LT8582. Can also be used to synchronize channel 1 or channel 2 of the LT8582 with the other channel of the LT8582. This pin (See Datasheet)", 15 ~{SHDN2} (in) "Shutdown Pins. In conjunction with the UVLO (undervoltage lockout) circuit, these pins are used to enable/disable the channel and restart the soft-start sequence. Drive below 0.3V to disable the channel with very low (See Datasheet)", 16 RT2 "Timing Resistor Pins. Adjusts the switching frequency of the corresponding channel. Place a resistor from these pins to ground to set the frequency to a fixed free running level. Do not float these pins.", 17 SS2 (in) "Soft-Start Pins. Place a softstart capacitor here. Upon start-up, the SS pins will be charged by a (nominally) 250k resistor to ~2.1V. During a fault, the SS pin for the corresponding channel will be slowly charged up and (See Datasheet)", 18 SYNC2 (in) "Use to synchronize the switching frequency of a channel to an outside clock. The high voltage level of the clock must exceed 1.3V and the low level must be less than 0.4V. Drive these pins to less than 0.4V to revert to the (See Datasheet)", 19 SYNC1 (in) "Use to synchronize the switching frequency of a channel to an outside clock. The high voltage level of the clock must exceed 1.3V and the low level must be less than 0.4V. Drive these pins to less than 0.4V to revert to the (See Datasheet)", 20 SS1 (in) "Soft-Start Pins. Place a softstart capacitor here. Upon start-up, the SS pins will be charged by a (nominally) 250k resistor to ~2.1V. During a fault, the SS pin for the corresponding channel will be slowly charged up and (See Datasheet)", 21 RT1 "Timing Resistor Pins. Adjusts the switching frequency of the corresponding channel. Place a resistor from these pins to ground to set the frequency to a fixed free running level. Do not float these pins.", 22 ~{SHDN1} (in) "Shutdown Pins. In conjunction with the UVLO (undervoltage lockout) circuit, these pins are used to enable/disable the channel and restart the soft-start sequence. Drive below 0.3V to disable the channel with very low (See Datasheet)", 23 CLKOUT1 (out) "Clock Output Pins. Use these pins to synchronize one or more other ICs to either channel of the LT8582. Can also be used to synchronize channel 1 or channel 2 of the LT8582 with the other channel of the LT8582. This pin (See Datasheet)", 24 SWB1 (power) "Slave Switch Pins. This is the collector of the internal slave NPN power switch for each channel. SWB is designed to handle a peak collector current of 1.3A (minimum). Minimize the metal trace area connected to this pin to (See Datasheet)", 25 EP (power) "Ground. Exposed pad must be soldered directly to local ground plane."

## LTC1876EG
designator U?
High Efficiency, 2-Phase, Dual Synchronous Step-Down Switching Controller and Step-Up Regulator, 3.5 to 36 V Vin, 36-pin SOP (G-36), -40 to 85 degC; Manufacturer: Linear Technology; PartNumber: LTC1876EG; Number of Outputs: 3; Vin Max(V): 36; Vin Min(V): 3.5; DatasheetVersion: Rev. A; PackageReference: G-36; PackageDescription: 36-Pin Plastic SSOP, Body 12.8 x 5.3 mm, Pitch 0.65 mm; Supplier 1: Digi-Key; Supplier Part Number 1: LTC1876EG-ND; RoHS: FALSE; Mounting Technology: Surface Mount; ComponentLink1Description: Manufacturer URL; ComponentLink1URL: http://www.linear.com/; ComponentLink2Description: Datasheet; ComponentLink2URL: http://cds.linear.com/docs/en/datasheet/1876fa.pdf; ComponentLink3Description: Package Specification; ComponentLink3URL: http://cds.linear.com/docs/en/packaging/SSOP_36_05-08-1640.pdf
footprint LT-G-36_N (SOP, 36-Leads, Body 13.1x5.6mm, Pitch 0.65mm, IPC Medium Density)
footprint LT-G-36_L (SOP, 36-Leads, Body 13.1x5.6mm, Pitch 0.65mm, IPC High Density)
footprint LT-G-36_M (SOP, 36-Leads, Body 13.1x5.6mm, Pitch 0.65mm, IPC Low Density)
pins: 1 RUN/SS1 (in) "Combination of Soft-Start, Run Control Inputs and Short-Circuit Detection Timers. A capacitor to ground at each of these pins sets the ramp time to full output current. Forcing either of these pins back below 1V causes the (See Datasheet)", 2 SENSE1+ (in) "The (+) Input to each Differential Current Comparator. The ITH pin voltage and controlled offsets between the SENSE- and SENSE+ pins in conjunction with RSENSE set the current trip threshold.", 3 SENSE1- (in) "The (-) Input to the Differential Current Comparators.", 4 VOSENSE1 (in) "Receives the remotelysensed feedback voltage for each controller from an external resistive divider across the output.", 5 FREQSET (in) "Frequency Control Input to the Oscillator. This pin can be left open, tied to ground, tied to INTVCC or driven by an external voltage source. This pin can also be used with an external phase detector to build a true (See Datasheet)", 6 STBYMD (in) "Control pin that determines which circuitry remains active when the controllers are shut down and/or provides a common control point to shut down both controllers. See the Operation section for details.", 7 FCB (in) "Forced Continuous Control Input. This input acts on both controllers and is normally used to regulate a secondary winding. Pulling this pin below 0.8V will force continuous synchronous operation on both controllers. Do not (See Datasheet)", 8 ITH1 "Error Amplifier Output and Switching Regulator Compensation Point. Each associated channel’s current comparator trip point increases with this control voltage.", 9 SGND (power) "Small signal ground common to both controllers, must be routed separately from high current grounds to the common (-) terminals of the COUT capacitors.", 10 3.3VOUT (power) "Output of a linear regulator capable of supplying up to 10mA DC with peak currents as high as 50mA.", 11 ITH2 "Error Amplifier Output and Switching Regulator Compensation Point. Each associated channel’s current comparator trip point increases with this control voltage.", 12 VOSENSE2 (in) "Receives the remotelysensed feedback voltage for each controller from an external resistive divider across the output.", 13 SENSE2- (in) "The (-) Input to the Differential Current Comparators.", 14 SENSE2+ (in) "The (+) Input to each Differential Current Comparator. The ITH pin voltage and controlled offsets between the SENSE- and SENSE+ pins in conjunction with RSENSE set the current trip threshold.", 15 AUXSGND (power) "Small Signal Ground of the Auxiliary Boost Regulator.", 16 AUXVFB (in) "Auxiliary Boost Regulator Feedback Voltage. This pin receives the feedback voltage from an external resistive divider across the auxiliary output.", 17 AUXSW "Switch Node Connections to Inductor for the Auxiliary Regulator. Voltage swing at these pins are from ground to (VOUT + voltage across Shottky diode). Minimize trace area at these pins to keep EMI down.", 18 AUXSW "Switch Node Connections to Inductor for the Auxiliary Regulator. Voltage swing at these pins are from ground to (VOUT + voltage across Shottky diode). Minimize trace area at these pins to keep EMI down.", 19 AUXPGND (power) "The Auxiliary Power Ground Pins. Its gate drive currents are returned to these pin.", 20 AUXPGND (power) "The Auxiliary Power Ground Pins. Its gate drive currents are returned to these pin.", 21 AUXVIN (power) "Auxiliary Boost Regulator Controller Supply Pin. Must be closely decoupled to AUXPGND.", 22 ~{AUXSD} (in) "Shutdown Pin for the Auxiliary Regulator. Connect to 2.4V or more to enable the auxiliary regulator or ground to shut the auxiliary regulator off.", 23 RUN/SS2 (in) "Combination of Soft-Start, Run Control Inputs and Short-Circuit Detection Timers. A capacitor to ground at each of these pins sets the ramp time to full output current. Forcing either of these pins back below 1V causes the (See Datasheet)", 24 TG2 (out) "High Current Gate Drives for Top N-Channel MOSFETs. These are the outputs of floating drivers with a voltage swing equal to INTVCC - 0.5V superimposed on the switch node voltage SW.", 25 SW2 "Switch Node Connections to Inductors. Voltage swing at these pins is from a Schottky diode (external) voltage drop below ground to VIN.", 26 BOOST2 "Bootstrapped Supplies to the Top Side Floating Drivers. Capacitors are connected between the boost and switch pins and Schottky diodes are tied between the boost and INTVCC pins. Voltage swing at the boost pins is from (See Datasheet)", 27 BG2 (out) "High Current Gate Drives for Bottom (synchronous) N-Channel MOSFETs. Voltage swing at these pins is from ground to INTVCC.", 28 PGND (power) "Driver Power Ground. Connects to sources of bottom (synchronous) N-channel MOSFETs, anode of the Schottky rectifier and the (-) terminal(s) of CIN.", 29 INTVCC (power) "Output of the Internal 5V Linear Low Dropout Regulator and the EXTVCC Switch. The driver and control circuits are powered from this voltage source. Must be decoupled to power ground with a minimum of 4.7mF tantalum or other, (See Datasheet)", 30 EXTVCC (power) "External Power Input to an Internal Switch Connected to INTVCC. This switch closes and supplies VCC power, bypassing the internal low dropout regulator, whenever EXTVCC is higher than 4.7V. See EXTVCC connection in (See Datasheet)", 31 BG1 (out) "High Current Gate Drives for Bottom (synchronous) N-Channel MOSFETs. Voltage swing at these pins is from ground to INTVCC.", 32 VIN (power) "Main Supply Pin. A bypass capacitor should be tied between this pin and the signal ground pin.", 33 BOOST1 "Bootstrapped Supplies to the Top Side Floating Drivers. Capacitors are connected between the boost and switch pins and Schottky diodes are tied between the boost and INTVCC pins. Voltage swing at the boost pins is from (See Datasheet)", 34 SW1 "Switch Node Connections to Inductors. Voltage swing at these pins is from a Schottky diode (external) voltage drop below ground to VIN.", 35 TG1 (out) "High Current Gate Drives for Top N-Channel MOSFETs. These are the outputs of floating drivers with a voltage swing equal to INTVCC - 0.5V superimposed on the switch node voltage SW.", 36 PGOOD (oc) "Open-Drain Logic Output. PGOOD is pulled to ground when the voltage on either VOSENSE pin is not within 7.5% of its setpoint."